# Altium footprint library Conn_Wurth_61300611121_eec_0.PcbLib: 1 footprints
Each footprint in its own frame and in the unit in brackets; x right, y up, seen from the top. Pads: shape width x height; smd on the part's side, far side on the other; paste and mask are expansions set on the pad; w line width, h text height; cw(c..) or ccw(c..) is an arc to the next point about the centre after c.
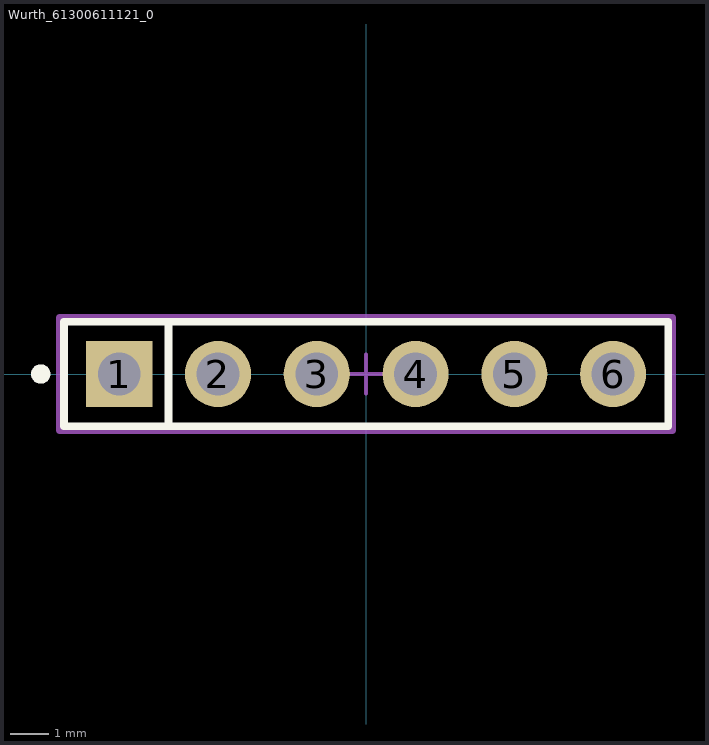
[diagram p0: the footprint, top view; thin cyan lines are the x and y axes]

## Wurth_61300611121_0 [mm]
pads (6):
  rect 1.7x1.7 hole 1.1 paste-1000 mask+0: 1(-6.35,0)
  round 1.7 hole 1.1 paste-1000 mask+0: 2(-3.81,0) 3(-1.27,0) 4(1.27,0) 5(3.81,0) 6(6.35,0)
Top Overlay:
  circle w0.25: c-8.37,0 r0.125
  lines w0.2: -5.08,-1.345 -5.08,1.345 ; -7.77,-1.345 7.77,-1.345 7.77,1.345 -7.77,1.345 -7.77,-1.345
Mechanical 10:
  lines w0.2: -7.87,-1.445 7.87,-1.445 7.87,1.445 -7.87,1.445 -7.87,-1.445
  text ".Designator" at 0,0 h1
Mechanical 12:
  lines w0.15: -7.77,-1.345 7.77,-1.345 7.77,1.345 -7.77,1.345 -7.77,-1.345
Mechanical 15:
  lines w0.1: -0.5,0 0.5,0 ; 0,-0.5 0,0.5
  lines w0.2: -7.87,-1.445 7.87,-1.445 7.87,1.445 -7.87,1.445 -7.87,-1.445
3D body "Conn_Wurth_61300611121_eec.STEP": height 0.25, standoff 0, extent -7.87,-1.445 7.87,1.445